# Altium schematic symbol library LSM9DS1.SchLib: 1 symbol
Pins are listed as number, name and electrical type; pins without a type are passive.

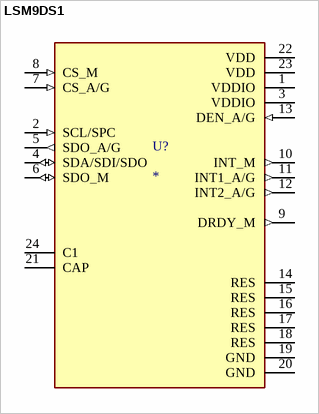
[diagram p0: symbol LSM9DS1]

## LSM9DS1
designator U?
iNEMO inertial module: 3D accelerometer, 3D gyroscope, 3D magnetometer; MF: {'manufacturer': u'STMicroelectronics'}; MP: LSM9DS1; Package: None; Price: None; Value: *; Availability: Unavailable
footprint PQFN24P43_350X300X102L35X23N
pins: 1 VDDIO (power), 2 SCL/SPC (in), 3 VDDIO (power), 4 SDA/SDI/SDO (io), 5 SDO_A/G (out), 6 SDO_M (io), 7 CS_A/G (in), 8 CS_M (in), 9 DRDY_M (out), 10 INT_M (out), 11 INT1_A/G (out), 12 INT2_A/G (out), 13 DEN_A/G (in), 14 RES (power), 15 RES (power), 16 RES (power), 17 RES (power), 18 RES (power), 19 GND (power), 20 GND (power), 21 CAP, 22 VDD (power), 23 VDD (power), 24 C1